# Altium schematic symbol library TPS08U.SchLib: 1 symbol
Pins are listed as number, name and electrical type; pins without a type are passive.

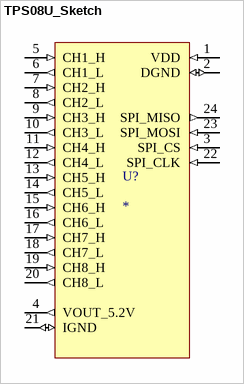
[diagram p0: symbol TPS08U_Sketch]

## TPS08U_Sketch
designator U?
pins: 1 VDD (in), 2 DGND (io), 3 SPI_CS (in), 4 VOUT_5.2V (out), 5 CH1_H (in), 6 CH1_L (out), 7 CH2_H (in), 8 CH2_L (out), 9 CH3_H (in), 10 CH3_L (out), 11 CH4_H (in), 12 CH4_L (out), 13 CH5_H (in), 14 CH5_L (out), 15 CH6_H (in), 16 CH6_L (out), 17 CH7_H (in), 18 CH7_L (out), 19 CH8_H (in), 20 CH8_L (out), 21 IGND (io), 22 SPI_CLK (in), 23 SPI_MOSI (in), 24 SPI_MISO (out)